# EAGLE library part 12AU7 (library MyParts)
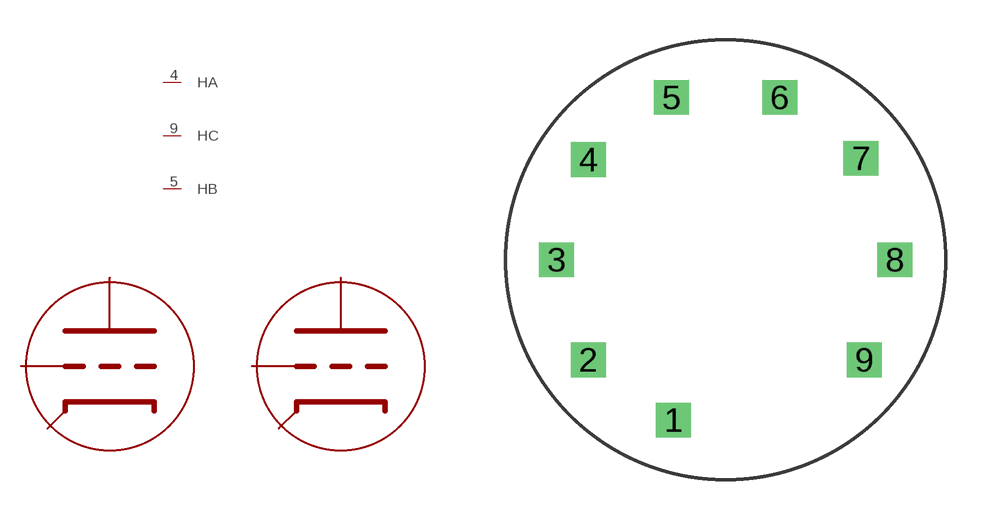
[diagram p1: symbol with the pads of RETMA-9A; footprint RETMA-9A]

Designator prefix -; gates A=TRIODE B=TRIODE G$1=HEATER_SUPPLY

## 12AU7  [RETMA-9A]
1  B:PLATE  pas
2  B:GRID  pas
3  B:CATHODE  pas
4  G$1:HA  pas
5  G$1:HB  pas
6  A:PLATE  pas
7  A:GRID  pas
8  A:CATHODE  pas
9  G$1:HC  pas

## Footprint RETMA-9A (pad centres in mm)
drill 0.8 square: 1 -1.956,-6.02; 2 -5.156,-3.759; 3 -6.35,0; 4 -5.156,3.759; 5 -2.032,6.096; 6 2.032,6.096; 7 5.08,3.81; 8 6.35,0; 9 5.207,-3.759